# Altium schematic symbol library ATmega16U.SchLib: 1 symbol
Pins are listed as number, name and electrical type; pins without a type are passive.

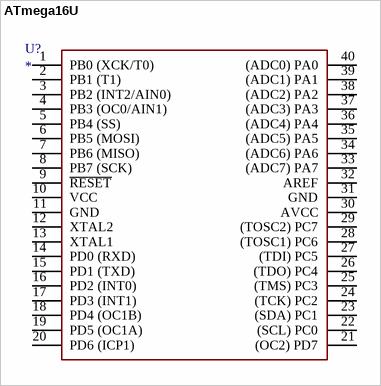
[diagram p0: symbol ATmega16U]

## ATmega16U
designator U?
footprint DIP40_plane
footprint DIP40
pins: 1 PB0 (XCK/T0), 2 PB1 (T1), 3 PB2 (INT2/AIN0), 4 PB3 (OC0/AIN1), 5 PB4 (SS), 6 PB5 (MOSI), 7 PB6 (MISO), 8 PB7 (SCK), 9 ~{RESET}, 10 VCC, 11 GND, 12 XTAL2, 13 XTAL1, 14 PD0 (RXD), 15 PD1 (TXD), 16 PD2 (INT0), 17 PD3 (INT1), 18 PD4 (OC1B), 19 PD5 (OC1A), 20 PD6 (ICP1), 21 (OC2) PD7, 22 (SCL) PC0, 23 (SDA) PC1, 24 (TCK) PC2, 25 (TMS) PC3, 26 (TDO) PC4, 27 (TDI) PC5, 28 (TOSC1) PC6, 29 (TOSC2) PC7, 30 AVCC, 31 GND, 32 AREF, 33 (ADC7) PA7, 34 (ADC6) PA6, 35 (ADC5) PA5, 36 (ADC4) PA4, 37 (ADC3) PA3, 38 (ADC2) PA2, 39 (ADC1) PA1, 40 (ADC0) PA0